# EAGLE library part 4020151 (library ampex)
REPRO EXTENDER
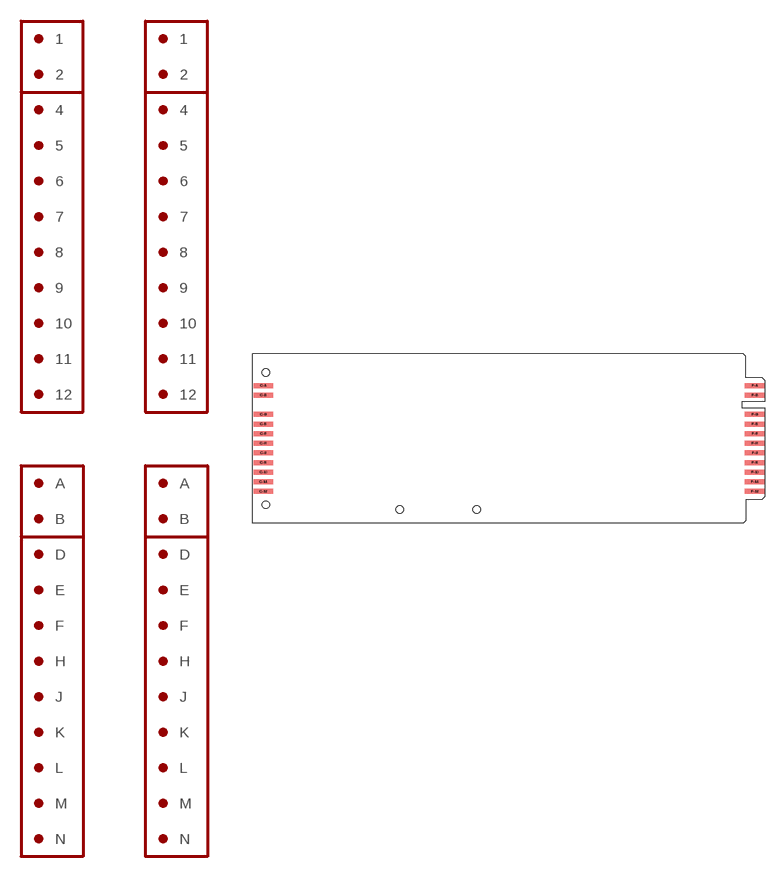
[diagram p14: symbol with the pads of 4020151; footprint 4020151]

Designator prefix X; gates FA=REPRO-EXT-A PA=REPRO-EXT-A FN=REPRO-EXT-N PN=REPRO-EXT-N

## 4020151  [4020151]
C-1  PN:1  pas
C-2  PN:2  pas
C-4  PN:4  pas
C-5  PN:5  pas
C-6  PN:6  pas
C-7  PN:7  pas
C-8  PN:8  pas
C-9  PN:9  pas
C-10  PN:10  pas
C-11  PN:11  pas
C-12  PN:12  pas
C-A  PA:A  pas
C-B  PA:B  pas
C-D  PA:D  pas
C-E  PA:E  pas
C-F  PA:F  pas
C-H  PA:H  pas
C-J  PA:J  pas
C-K  PA:K  pas
C-L  PA:L  pas
C-M  PA:M  pas
C-N  PA:N  pas
F-1  FN:1  pas
F-2  FN:2  pas
F-4  FN:4  pas
F-5  FN:5  pas
F-6  FN:6  pas
F-7  FN:7  pas
F-8  FN:8  pas
F-9  FN:9  pas
F-10  FN:10  pas
F-11  FN:11  pas
F-12  FN:12  pas
F-A  FA:A  pas
F-B  FA:B  pas
F-D  FA:D  pas
F-E  FA:E  pas
F-F  FA:F  pas
F-H  FA:H  pas
F-J  FA:J  pas
F-K  FA:K  pas
F-L  FA:L  pas
F-M  FA:M  pas
F-N  FA:N  pas

## Footprint 4020151 (pad centres in mm)
REPRO EXTENDER Grid 0.00975"
smd 8.128 x 2.032 bottom: C-1 -127.292,21.793; C-2 -127.292,17.831; C-4 -127.292,9.906; C-5 -127.292,5.944; C-6 -127.292,1.981; C-7 -127.292,-1.981; C-8 -127.292,-5.944; C-9 -127.292,-9.906; C-10 -127.292,-13.868; C-11 -127.292,-17.831; C-12 -127.292,-21.793; F-1 75.038,21.793; F-2 75.038,17.831; F-4 75.038,9.906; F-5 75.038,5.944; F-6 75.038,1.981; F-7 75.038,-1.981; F-8 75.038,-5.944; F-9 75.038,-9.906; F-10 75.038,-13.868; F-11 75.038,-17.831; F-12 75.038,-21.793
smd 8.128 x 2.032: C-A -127.292,21.793; C-B -127.292,17.831; C-D -127.292,9.906; C-E -127.292,5.944; C-F -127.292,1.981; C-H -127.292,-1.981; C-J -127.292,-5.944; C-K -127.292,-9.906; C-L -127.292,-13.868; C-M -127.292,-17.831; C-N -127.292,-21.793; F-A 75.038,21.793; F-B 75.038,17.831; F-D 75.038,9.906; F-E 75.038,5.944; F-F 75.038,1.981; F-H 75.038,-1.981; F-J 75.038,-5.944; F-K 75.038,-9.906; F-L 75.038,-13.868; F-M 75.038,-17.831; F-N 75.038,-21.793
hole 3.048 at -126.276,27.241
hole 3.048 at -126.276,-27.241
hole 3.048 at -71.12,-29.21
hole 3.048 at -39.37,-29.21